# Altium footprint library PcbLib1.PcbLib: 1 footprints
Each footprint in its own frame and in the unit in brackets; x right, y up, seen from the top. Pads: shape width x height; smd on the part's side, far side on the other; paste and mask are expansions set on the pad; w line width, h text height; cw(c..) or ccw(c..) is an arc to the next point about the centre after c.
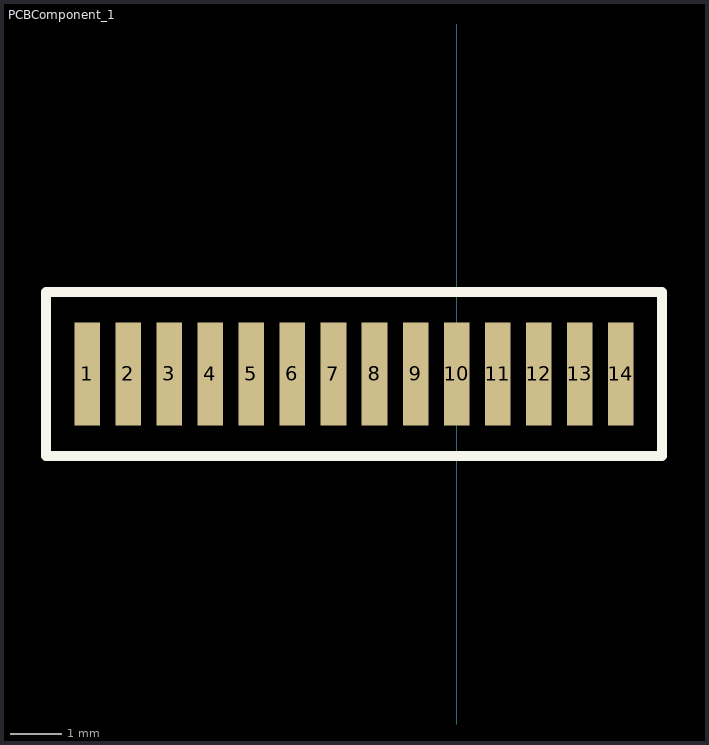
[diagram p0: the footprint, top view; thin cyan lines are the x and y axes]

## PCBComponent_1 [mm]
pads (14):
  rect 0.5x2 smd: 1(-7.2,-20.8) 2(-6.4,-20.8) 3(-5.6,-20.8) 4(-4.8,-20.8) 5(-4,-20.8) 6(-3.2,-20.8) 7(-2.4,-20.8) 8(-1.6,-20.8) 9(-0.8,-20.8) 10(0,-20.8) 11(0.8,-20.8) 12(1.6,-20.8) 13(2.4,-20.8) 14(3.2,-20.8)
Top Overlay:
  lines w0.2: -8,-22.4 4,-22.4 4,-19.2 -8,-19.2 -8,-22.4